# Altium footprint library PcbLib1.PcbLib: 14 footprints
Each footprint in its own frame and in the unit in brackets; x right, y up, seen from the top. Pads: shape width x height; smd on the part's side, far side on the other; paste and mask are expansions set on the pad; w line width, h text height; cw(c..) or ccw(c..) is an arc to the next point about the centre after c.
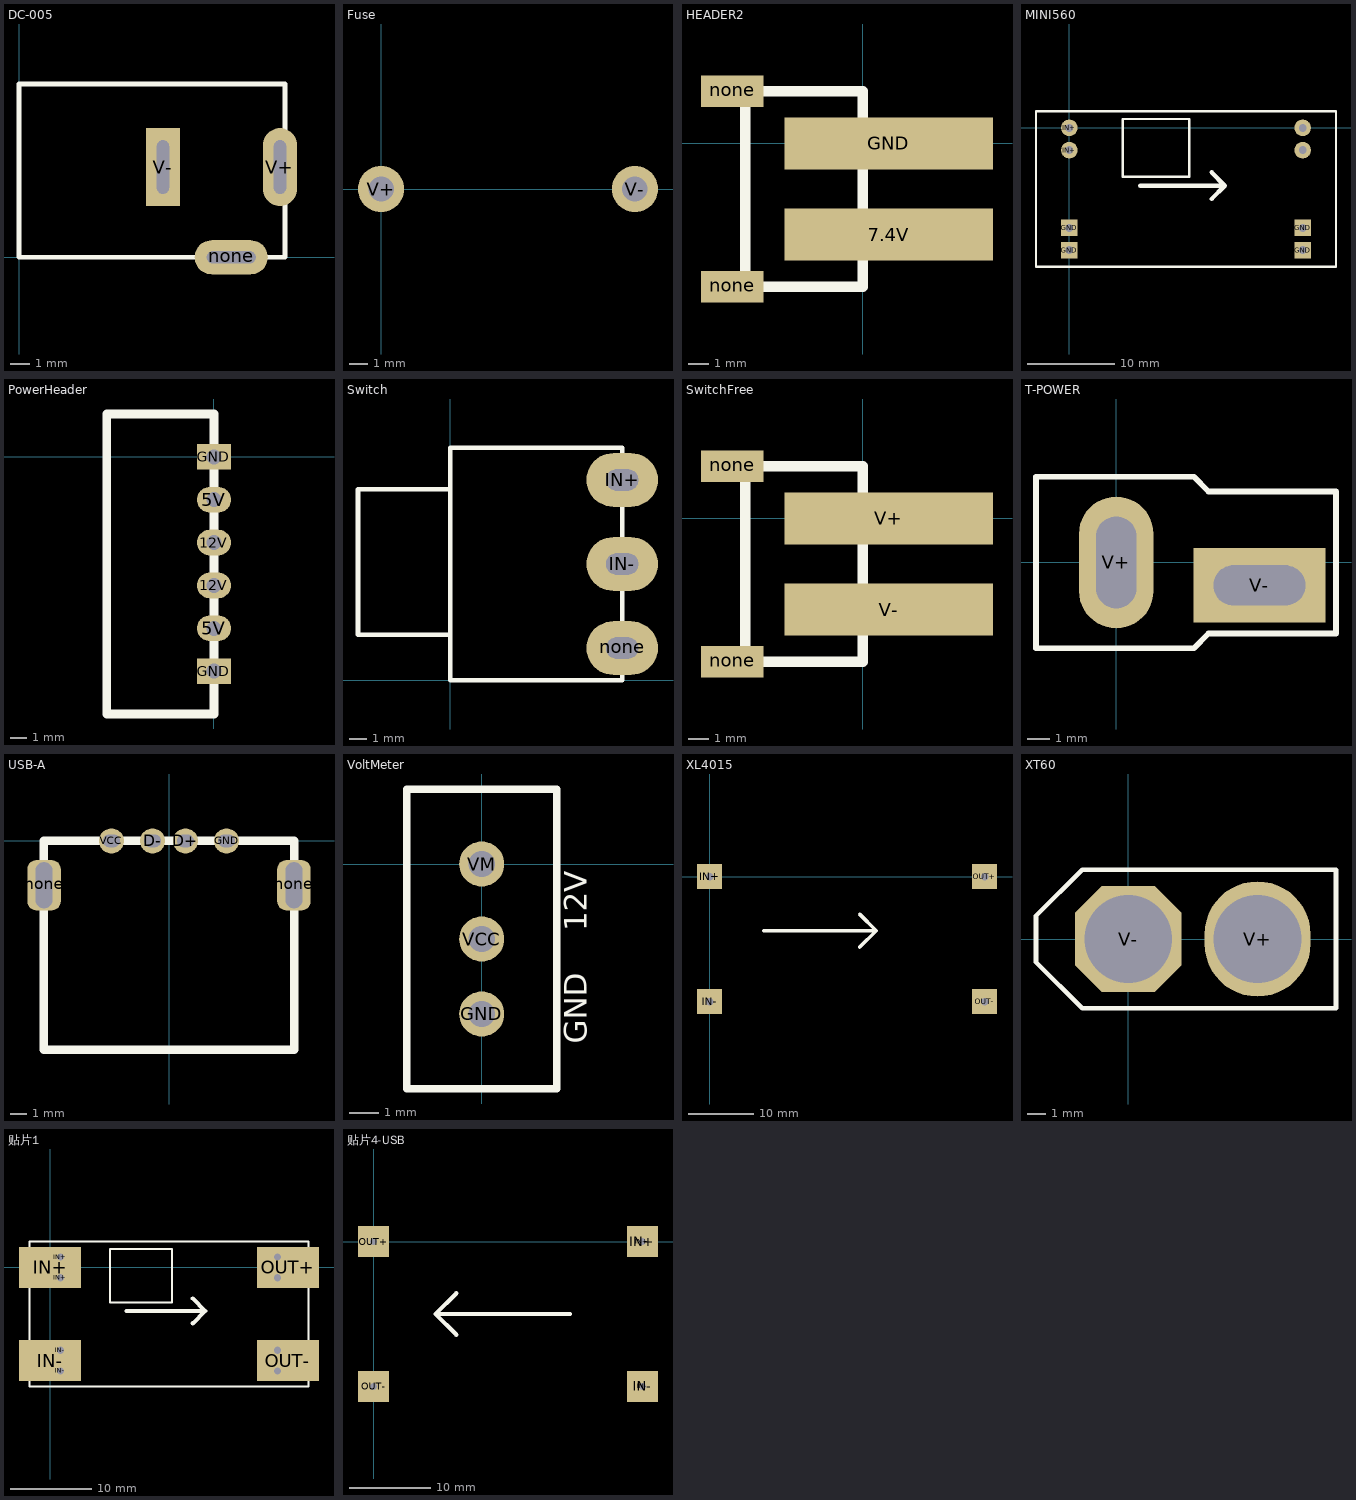
[diagram p0: the footprints below, top view; thin cyan lines are the x and y axes]

## DC-005 [mil]
pads (3):
  oval 150x70 hole 25 slot 100 at 0 deg: none(435,0)
  oval 70x160 hole 25 slot 110 at 90 deg: V+(535,185)
  rect 70x160 hole 25 slot 110 at 90 deg: V-(295,185)
Top Overlay:
  lines w10: 0,0 0,355 545,355 545,0 0,0

## Fuse [mil] "保险丝"
pads (2):
  round 100 hole 55: V+(0,0) V-(550,0)

## HEADER2 [mil]
pads (4):
  rect 400x100 smd: 7.4V(50,-175) GND(50,0)
  rect 120x60 smd: none(-250,-275) none(-250,100)
Top Overlay:
  lines w20: -225,-275 0,-275 0,100 -225,100 -225,-275

## MINI560 [mil] "降压模块"
pads (8):
  rect 75x75 hole 35: GND(0,-550) GND(0,-450) GND(1050,-550) GND(1050,-450)
  round 75 hole 35: IN+(0,-100) IN+(0,0) OUT+(1050,-100) OUT+(1050,0)
Top Overlay:
  lines w10: -150,-625 1200,-625 1200,75 -150,75 -150,-625 ; 240,-220 240,40 540,40 540,-220 240,-220
  lines w20: 320,-260 700,-260 ; 640,-320 700,-260 ; 640,-200 700,-260

## PowerHeader [mil]
pads (6):
  oval 80x60 hole 35: 5V(0,-400) 5V(0,-100) 12V(0,-300) 12V(0,-200)
  rect 80x60 hole 35: GND(0,-500) GND(0,0)
Top Overlay:
  lines w20: -250,-600 0,-600 0,100 -250,100 -250,-600

## Switch [mm]
pads (3):
  oval 4x3 hole 1.2 slot 1.8 at 0 deg: IN+(9.601,11.2) IN-(9.601,6.5) none(9.601,1.8)
Top Overlay:
  lines w0.254: -5.169,10.668 -0.025,10.668 ; -5.169,10.69 -5.169,2.54 0,2.54 ; 0,0 9.601,0 9.601,13 0,13 0,0

## SwitchFree [mil]
pads (4):
  rect 120x60 smd: none(-250,-275) none(-250,100)
  rect 400x100 smd: V+(50,0) V-(50,-175)
Top Overlay:
  lines w20: -225,-275 -225,100 0,100 0,-275 -225,-275

## T-POWER [mil] "T插"
pads (2):
  oval 130x230 hole 70 slot 160 at 90 deg: V+(0,0)
  rect 230x130 hole 70 slot 160 at 0 deg: V-(250,-40)
Top Overlay:
  lines w10: -140,-149.61 -140,149.61 135.59,149.61 161.18,124.02 383.62,124.02 383.62,-124.02 161.18,-124.02 135.59,-149.61 -140,-149.61

## USB-A [mil]
pads (6):
  round 60 hole 30 slot 40 at 0 deg: D+(39.37,0) D-(-39.37,0) GND(137.8,0) VCC(-137.8,0)
  rrect50% 80x120 hole 110 slot 40 at 0 deg: none(-299.21,-106.3) none(299.21,-106.3)
Top Overlay:
  lines w20: -300,-500 300,-500 300,0 -300,0 -300,-500

## VoltMeter [mil]
pads (3):
  round 60 hole 35: GND(0,-200) VCC(0,-100) VM(0,0)
Top Overlay:
  lines w10: -100,-300 100,-300 100,100 -100,100 -100,-300
  text "GND" at 140,-240 h30
  text "12V" at 140,-90 h30

## XL4015 [mil]
pads (8):
  round 75 hole 45: IN+(0,0) IN-(0,-750) OUT+(1650,0) OUT-(1650,-750)
  rect 150x150 smd: IN+(0,0) IN-(0,-750) OUT+(1650,0) OUT-(1650,-750)
Top Overlay:
  lines w20: 325,-325 1000,-325 ; 900,-425 1000,-325 ; 900,-225 1000,-325

## XT60 [mil]
pads (2):
  oval 230x250 hole 190: V+(280,0)
  oct 230x230 hole 190: V-(0,0)
Top Overlay:
  lines w10: -100,150 450,150 450,-150 -100,-150 -200,-50 -200,50 -100,150 ; -100,150 -100,150

## 贴片1 [mil]
pads (12):
  rect 300x200 smd: IN+(0,0) IN-(0,-450) OUT+(1150,0) OUT-(1150,-450)
  round 75 hole 35: IN+(50,-50) IN+(50,50) OUT+(1100,-50) OUT+(1100,50)
  rect 75x75 hole 35: IN-(50,-500) IN-(50,-400) OUT-(1100,-500) OUT-(1100,-400)
Top Overlay:
  lines w10: -100,-575 -100,125 1250,125 1250,-575 -100,-575 ; 290,-170 290,90 590,90 590,-170 290,-170
  lines w20: 370,-210 750,-210 ; 690,-270 750,-210 ; 690,-150 750,-210

## 贴片4-USB [mil]
pads (8):
  rect 150x150 smd: IN+(1300,0) IN-(1300,-700) OUT+(0,0) OUT-(0,-700)
  round 75 hole 35: IN+(1300,0) IN-(1300,-700) OUT+(0,0) OUT-(0,-700)
Top Overlay:
  lines w20: 400,-450 300,-350 ; 400,-250 300,-350 ; 950,-350 300,-350